# Altium integrated library Switch.IntLib: 5 symbols
Pins are listed as number, name and electrical type; pins without a type are passive.

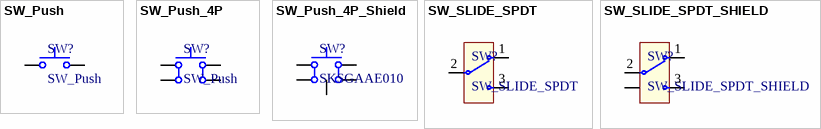
[diagram p0: symbols SW_Push to SW_SLIDE_SPDT_SHIELD]

## SW_Push
designator SW?
Push button switch, generic, two pins
footprint SW_2P_3_5x5x4_3mm
pins: 1, 2

## SW_Push_4P
designator SW?, comment SW_Push
Push button switch, generic, 4 pins
footprint SW_4P_3.2x4.2x2.5mm
pins: 1, 2, 3, 4

## SW_Push_4P_Shield
designator SW?, comment SKSGAAE010
3 × 2.7mm Compact High Operating Force (Surface Mount Type)
footprint SW_4P_3.2x2.7x1.4mm_ALPS_SKSGAAE010
pins: 0, 1, 2, 3, 4

## SW_SLIDE_SPDT
designator SW?
滑动开关，单刀双掷
pins: 1, 2, 3

## SW_SLIDE_SPDT_SHIELD
designator SW?
滑动开关，单刀双掷，带外壳固定
footprint SW_3P_8_6x4_5mm_Shield
footprint SW_3P_8_6x4_5mm_Shield_SIDE
footprint SW_SPDT_6.6*2.7*2.5mm_SIDE
pins: 0, 1, 2, 3